# EAGLE library part AT45DBXX (library lib_stankus)
Atmel AT45DBxxxD SPI DataFlash
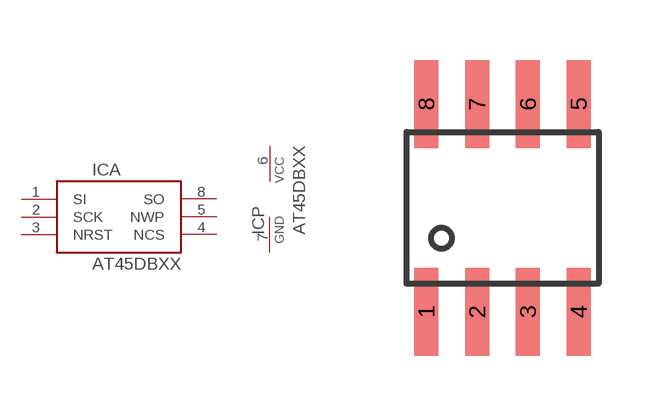
[diagram p2: symbol with the pads of SOIC8; footprint SOIC8]

Designator prefix IC; gates A=AT45DB_IO P=AT45DB_PWR

## AT45DBXX-SOIC8  [SOIC8]
1  A:SI  pas
2  A:SCK  pas
3  A:NRST  pas
4  A:NCS  pas
5  A:NWP  pas
6  P:VCC  pas
7  P:GND  pas
8  A:SO  pas

## Footprint SOIC8 (pad centres in mm)
SOIC8
smd 0.6 x 2.2: 1 -1.905,-2.6; 2 -0.635,-2.6; 3 0.635,-2.6; 4 1.905,-2.6; 5 1.905,2.6; 6 0.635,2.6; 7 -0.635,2.6; 8 -1.905,2.6